# Altium schematic symbol library 5.7 - 3.81mm连接器(KF128-KF2EDGVHM).SchLib: 21 symbols
Pins are listed as number, name and electrical type; pins without a type are passive.

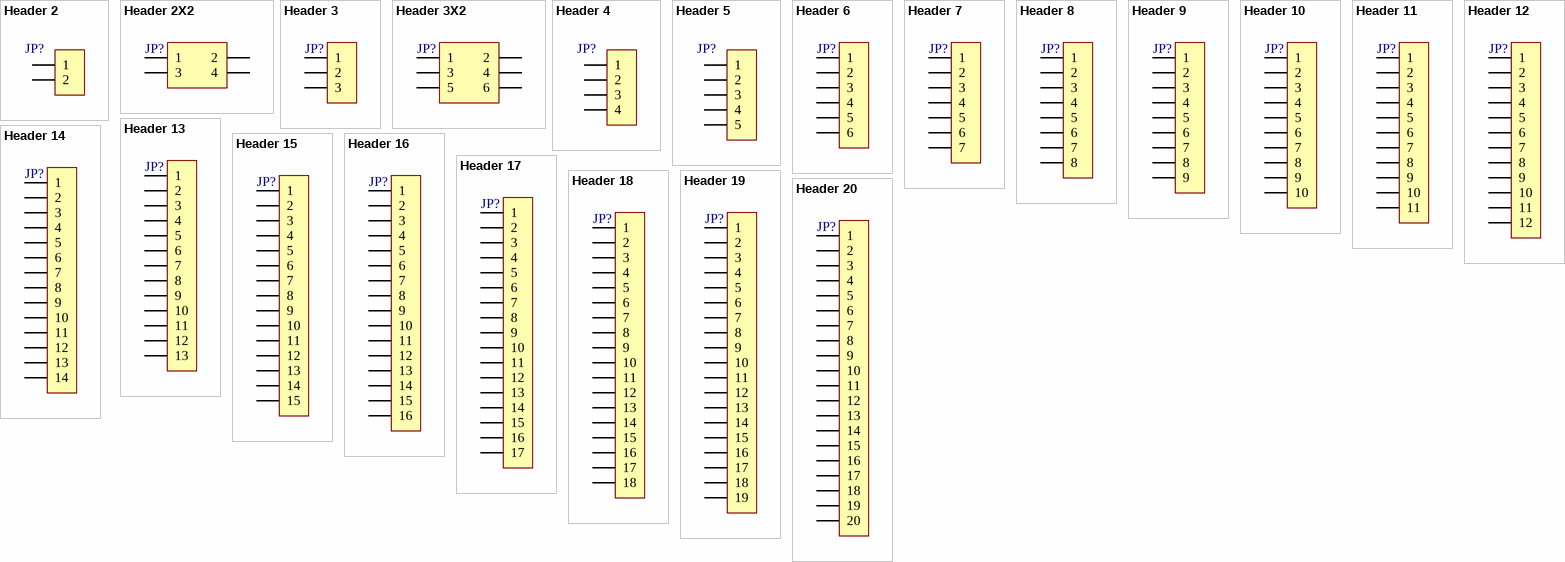
[diagram p0: symbols Header 2 to Header 20]

## Header 2
designator JP?, comment HDR-1X2  (value not drawn)
2P接插件; 当前库版本V2022.10.7 @淘宝卖家:黄晶宝石: 最新版本发布https://shop463601444.taobao.com; BOM名称: 2P接插件
footprint KF128-3.81-2P (螺钉式接线端子，脚距3.81mm)
pins: 1, 2

## Header 2X2
designator JP?, comment Header2X2  (value not drawn)
2*2P接插件; 当前库版本V2022.10.7 @淘宝卖家:黄晶宝石: 最新版本发布https://shop463601444.taobao.com; BOM名称: 2*2P接插件
footprint KF2EDGVHM-3.81-2-2P (双排插拔式接线端子)
pins: 1, 2, 3, 4

## Header 3
designator JP?, comment HDR-1X3  (value not drawn)
3P接插件; 当前库版本V2022.10.7 @淘宝卖家:黄晶宝石: 最新版本发布https://shop463601444.taobao.com; BOM名称: 3P接插件
footprint KF128-3.81-3P (螺钉式接线端子，脚距3.81mm)
pins: 1, 2, 3

## Header 3X2
designator JP?, comment Header3X2  (value not drawn)
3*2P接插件; 当前库版本V2022.10.7 @淘宝卖家:黄晶宝石: 最新版本发布https://shop463601444.taobao.com; BOM名称: 3*2P接插件
footprint KF2EDGVHM-3.81-2-3P (双排插拔式接线端子)
pins: 1, 2, 3, 4, 5, 6

## Header 4
designator JP?, comment HDR-1X4  (value not drawn)
4P接插件; 当前库版本V2022.10.7 @淘宝卖家:黄晶宝石: 最新版本发布https://shop463601444.taobao.com; BOM名称: 4P接插件
footprint KF128-3.81-4P (螺钉式接线端子，脚距3.81mm)
pins: 1, 2, 3, 4

## Header 5
designator JP?, comment HDR-1X5  (value not drawn)
5P接插件; 当前库版本V2022.10.7 @淘宝卖家:黄晶宝石: 最新版本发布https://shop463601444.taobao.com; BOM名称: 5P接插件
footprint KF128-3.81-5P (螺钉式接线端子，脚距3.81mm)
pins: 1, 2, 3, 4, 5

## Header 6
designator JP?, comment HDR-1X6  (value not drawn)
6P接插件; 当前库版本V2022.10.7 @淘宝卖家:黄晶宝石: 最新版本发布https://shop463601444.taobao.com; BOM名称: 6P接插件
footprint KF128-3.81-6P (螺钉式接线端子，脚距3.81mm)
pins: 1, 2, 3, 4, 5, 6

## Header 7
designator JP?, comment HDR-1X7  (value not drawn)
7P接插件; 当前库版本V2022.10.7 @淘宝卖家:黄晶宝石: 最新版本发布https://shop463601444.taobao.com; BOM名称: 7P接插件
footprint KF128-3.81-7P (螺钉式接线端子，脚距3.81mm)
pins: 1, 2, 3, 4, 5, 6, 7

## Header 8
designator JP?, comment HDR-1X8  (value not drawn)
8P接插件; 当前库版本V2022.10.7 @淘宝卖家:黄晶宝石: 最新版本发布https://shop463601444.taobao.com; BOM名称: 8P接插件
footprint KF128-3.81-8P (螺钉式接线端子，脚距3.81mm)
pins: 1, 2, 3, 4, 5, 6, 7, 8

## Header 9
designator JP?, comment HDR-1X9  (value not drawn)
9P接插件; 当前库版本V2022.10.7 @淘宝卖家:黄晶宝石: 最新版本发布https://shop463601444.taobao.com; BOM名称: 9P接插件
footprint KF128-3.81-9P (螺钉式接线端子，脚距3.81mm)
pins: 1, 2, 3, 4, 5, 6, 7, 8, 9

## Header 10
designator JP?, comment HDR-1X10  (value not drawn)
10P接插件; 当前库版本V2022.10.7 @淘宝卖家:黄晶宝石: 最新版本发布https://shop463601444.taobao.com; BOM名称: 10P接插件
footprint KF128-3.81-10P (螺钉式接线端子，脚距3.81mm)
pins: 1, 2, 3, 4, 5, 6, 7, 8, 9, 10

## Header 11
designator JP?, comment HDR-1X11  (value not drawn)
11P接插件; 当前库版本V2022.10.7 @淘宝卖家:黄晶宝石: 最新版本发布https://shop463601444.taobao.com; BOM名称: 11P接插件
footprint KF128-3.81-11P (螺钉式接线端子，脚距3.81mm)
pins: 1, 2, 3, 4, 5, 6, 7, 8, 9, 10, 11

## Header 12
designator JP?, comment HDR-1X12  (value not drawn)
12P接插件; 当前库版本V2022.10.7 @淘宝卖家:黄晶宝石: 最新版本发布https://shop463601444.taobao.com; BOM名称: 12P接插件
footprint KF128-3.81-12P (螺钉式接线端子，脚距3.81mm)
pins: 1, 2, 3, 4, 5, 6, 7, 8, 9, 10, 11, 12

## Header 13
designator JP?, comment HDR-1X13  (value not drawn)
13P接插件; 当前库版本V2022.10.7 @淘宝卖家:黄晶宝石: 最新版本发布https://shop463601444.taobao.com; BOM名称: 13P接插件
footprint KF128-3.81-13P (螺钉式接线端子，脚距3.81mm)
pins: 1, 2, 3, 4, 5, 6, 7, 8, 9, 10, 11, 12, 13

## Header 14
designator JP?, comment HDR-1X14  (value not drawn)
14P接插件; 当前库版本V2022.10.7 @淘宝卖家:黄晶宝石: 最新版本发布https://shop463601444.taobao.com; BOM名称: 14P接插件
footprint KF128-3.81-14P (螺钉式接线端子，脚距3.81mm)
pins: 1, 2, 3, 4, 5, 6, 7, 8, 9, 10, 11, 12, 13, 14

## Header 15
designator JP?, comment HDR-1X15  (value not drawn)
15P接插件; 当前库版本V2022.10.7 @淘宝卖家:黄晶宝石: 最新版本发布https://shop463601444.taobao.com; BOM名称: 15P接插件
footprint KF128-3.81-15P (螺钉式接线端子，脚距3.81mm)
pins: 1, 2, 3, 4, 5, 6, 7, 8, 9, 10, 11, 12, 13, 14, 15

## Header 16
designator JP?, comment HDR-1X16  (value not drawn)
16P接插件; 当前库版本V2022.10.7 @淘宝卖家:黄晶宝石: 最新版本发布https://shop463601444.taobao.com; BOM名称: 16P接插件
footprint KF128-3.81-16P (螺钉式接线端子，脚距3.81mm)
pins: 1, 2, 3, 4, 5, 6, 7, 8, 9, 10, 11, 12, 13, 14, 15, 16

## Header 17
designator JP?, comment HDR-1X17  (value not drawn)
17P接插件; 当前库版本V2022.10.7 @淘宝卖家:黄晶宝石: 最新版本发布https://shop463601444.taobao.com; BOM名称: 17P接插件
pins: 1, 2, 3, 4, 5, 6, 7, 8, 9, 10, 11, 12, 13, 14, 15, 16, 17

## Header 18
designator JP?, comment HDR-1X18  (value not drawn)
18P接插件; 当前库版本V2022.10.7 @淘宝卖家:黄晶宝石: 最新版本发布https://shop463601444.taobao.com; BOM名称: 18P接插件
pins: 1, 2, 3, 4, 5, 6, 7, 8, 9, 10, 11, 12, 13, 14, 15, 16, 17, 18

## Header 19
designator JP?, comment HDR-1X19  (value not drawn)
19P接插件; 当前库版本V2022.10.7 @淘宝卖家:黄晶宝石: 最新版本发布https://shop463601444.taobao.com; BOM名称: 19P接插件
pins: 1, 2, 3, 4, 5, 6, 7, 8, 9, 10, 11, 12, 13, 14, 15, 16, 17, 18, 19

## Header 20
designator JP?, comment HDR-1X20  (value not drawn)
20P接插件; 当前库版本V2022.10.7 @淘宝卖家:黄晶宝石: 最新版本发布https://shop463601444.taobao.com; BOM名称: 20P接插件
pins: 1, 2, 3, 4, 5, 6, 7, 8, 9, 10, 11, 12, 13, 14, 15, 16, 17, 18, 19, 20